# EAGLE library part SAMR21G (library atmel-samr21-qfn48)
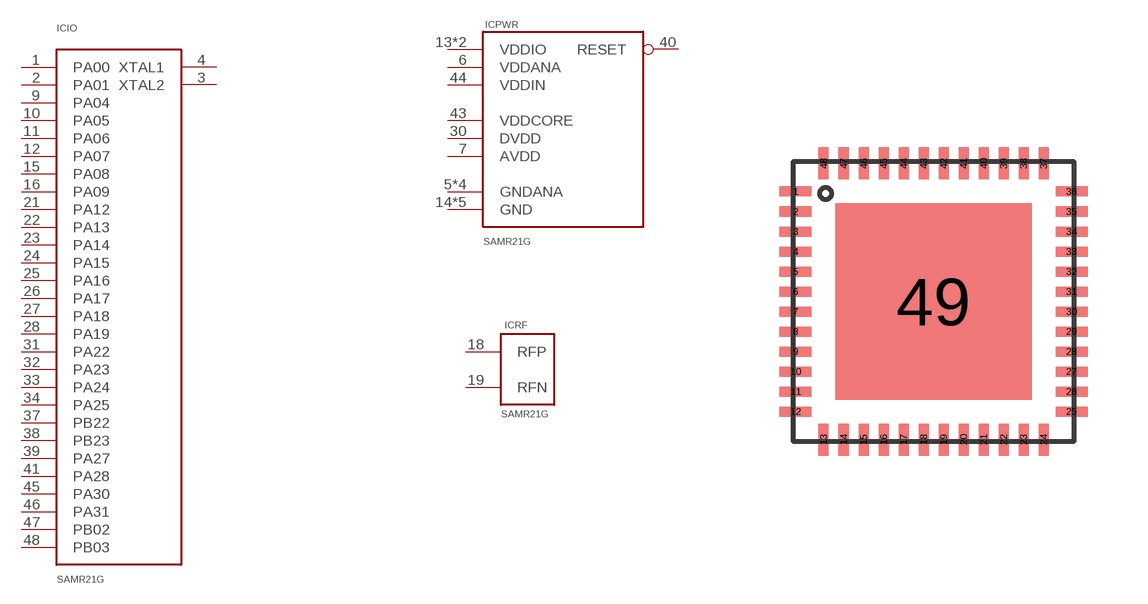
[diagram p0: symbol with the pads of MO-220-VKKD-4; footprint MO-220-VKKD-4]

Designator prefix IC; gates IO=SAMR21G-IO PWR=SAMR21G-PWR RF=SAMR21G-RF

## SAMR21G  [MO-220-VKKD-4]
1  IO:PA00
2  IO:PA01
3  IO:XTAL2  oc
4  IO:XTAL1  oc
5  PWR:GNDANA  pwr
6  PWR:VDDANA  pwr
7  PWR:AVDD  pwr
8  PWR:GNDANA  pwr
9  IO:PA04
10  IO:PA05
11  IO:PA06
12  IO:PA07
13  PWR:VDDIO  pwr
14  PWR:GND  pwr
15  IO:PA08
16  IO:PA09
17  PWR:GNDANA  pwr
18  RF:RFP
19  RF:RFN
20  PWR:GNDANA  pwr
21  IO:PA12
22  IO:PA13
23  IO:PA14
24  IO:PA15
25  IO:PA16
26  IO:PA17
27  IO:PA18
28  IO:PA19
29  PWR:GND  pwr
30  PWR:DVDD  pwr
31  IO:PA22
32  IO:PA23
33  IO:PA24
34  IO:PA25
35  PWR:GND  pwr
36  PWR:VDDIO  pwr
37  IO:PB22
38  IO:PB23
39  IO:PA27
40  PWR:RESET  pwr
41  IO:PA28
42  PWR:GND  pwr
43  PWR:VDDCORE  pwr
44  PWR:VDDIN  pwr
45  IO:PA30
46  IO:PA31
47  IO:PB02
48  IO:PB03
49  PWR:GND  pwr

## Footprint MO-220-VKKD-4 (pad centres in mm)
smd 0.8 x 0.25: 1 -3.45,2.75; 2 -3.45,2.25; 3 -3.45,1.75; 4 -3.45,1.25; 5 -3.45,0.75; 6 -3.45,0.25; 7 -3.45,-0.25; 8 -3.45,-0.75; 9 -3.45,-1.25; 10 -3.45,-1.75; 11 -3.45,-2.25; 12 -3.45,-2.75; 25 3.45,-2.75; 26 3.45,-2.25; 27 3.45,-1.75; 28 3.45,-1.25; 29 3.45,-0.75; 30 3.45,-0.25; 31 3.45,0.25; 32 3.45,0.75; 33 3.45,1.25; 34 3.45,1.75; 35 3.45,2.25; 36 3.45,2.75
smd 0.25 x 0.8: 13 -2.75,-3.45; 14 -2.25,-3.45; 15 -1.75,-3.45; 16 -1.25,-3.45; 17 -0.75,-3.45; 18 -0.25,-3.45; 19 0.25,-3.45; 20 0.75,-3.45; 21 1.25,-3.45; 22 1.75,-3.45; 23 2.25,-3.45; 24 2.75,-3.45; 37 2.75,3.45; 38 2.25,3.45; 39 1.75,3.45; 40 1.25,3.45; 41 0.75,3.45; 42 0.25,3.45; 43 -0.25,3.45; 44 -0.75,3.45; 45 -1.25,3.45; 46 -1.75,3.45; 47 -2.25,3.45; 48 -2.75,3.45
smd 4.9 x 4.9: 49 0,0